# Altium integrated library Actel ProASIC3.IntLib: 465 symbols (part 50 of 68)
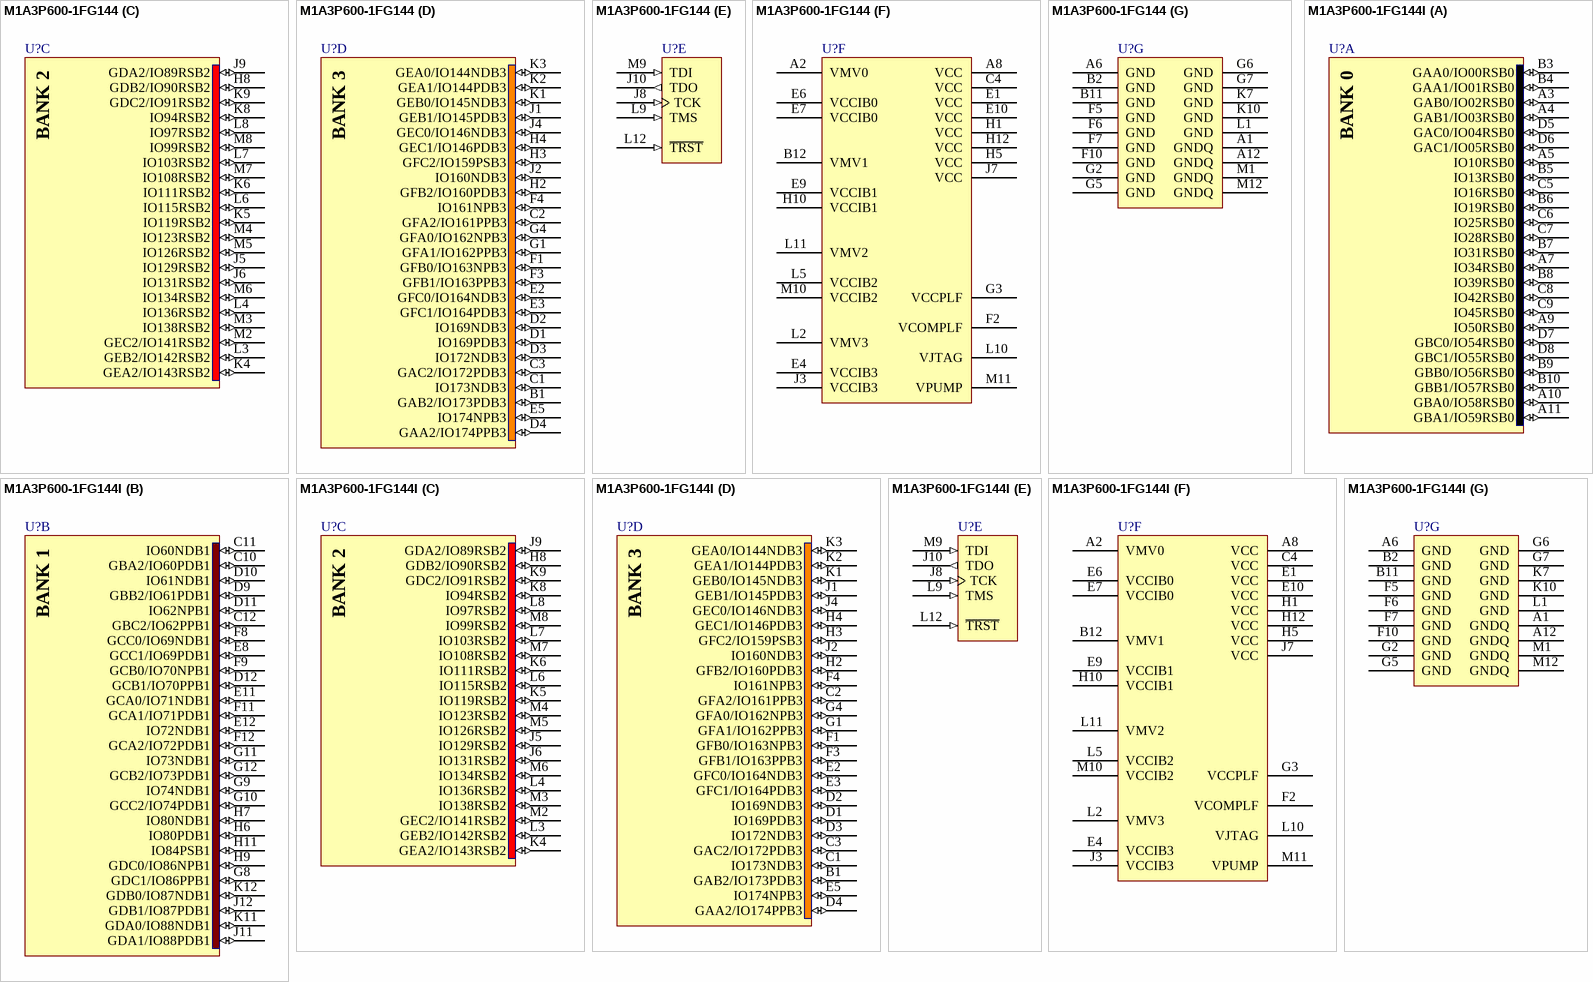
[diagram p448: symbols M1A3P600-1FG144 to M1A3P600-1FG144I]

## M1A3P600-1FG144I
designator U?
M1-Ready ProASIC3 Flash Family FPGA, 97 User IOs, 600K System Gates, 108 Kbits RAM, 1 Kbit ProASIC3 Flash ROM, 1 PLLs, 144-Ball FBGA, Industrial Grade; DatasheetVersion: v1.3, Oct-2009; PackageVersion: rev39, Aug-2010; PackageReference: FG144; PackageDescription: 144-Ball Fine Pitch Plastic Ball Grid Array (FG144); Code_JEDEC: MO-192-DAD-1; ComponentLink1Description: Manufacturer URL; ComponentLink1URL: http://www.actel.com/; ComponentLink2Description: ProASIC3 Datasheet; ComponentLink2URL: http://www.actel.com/documents/PA3_DS.pdf; ComponentLink3Description: Package Mechanical Drawings; ComponentLink3URL: http://www.actel.com/documents/PckgMechDrwngs.pdf; ComponentLink4Description: ProASIC3 Documents; ComponentLink4URL: http://www.actel.com/products/pa3/docs.aspx
footprint FG144 (BGA, 144-Leads, Body 13x13mm, Pitch 1mm)
part A pins: A3 GAB0/IO02RSB0 (io), A4 GAB1/IO03RSB0 (io), A5 IO10RSB0 (io), A7 IO34RSB0 (io), A9 IO50RSB0 (io), A10 GBA0/IO58RSB0 (io), A11 GBA1/IO59RSB0 (io), B3 GAA0/IO00RSB0 (io), B4 GAA1/IO01RSB0 (io), B5 IO13RSB0 (io), B6 IO19RSB0 (io), B7 IO31RSB0 (io), B8 IO39RSB0 (io), B9 GBB0/IO56RSB0 (io), B10 GBB1/IO57RSB0 (io), C5 IO16RSB0 (io), C6 IO25RSB0 (io), C7 IO28RSB0 (io), C8 IO42RSB0 (io), C9 IO45RSB0 (io), D5 GAC0/IO04RSB0 (io), D6 GAC1/IO05RSB0 (io), D7 GBC0/IO54RSB0 (io), D8 GBC1/IO55RSB0 (io)
part B pins: C10 GBA2/IO60PDB1 (io), C11 IO60NDB1 (io), C12 GBC2/IO62PPB1 (io), D9 GBB2/IO61PDB1 (io), D10 IO61NDB1 (io), D11 IO62NPB1 (io), D12 GCB1/IO70PPB1 (io), E8 GCC1/IO69PDB1 (io), E11 GCA0/IO71NDB1 (io), E12 IO72NDB1 (io), F8 GCC0/IO69NDB1 (io), F9 GCB0/IO70NPB1 (io), F11 GCA1/IO71PDB1 (io), F12 GCA2/IO72PDB1 (io), G8 GDC1/IO86PPB1 (io), G9 IO74NDB1 (io), G10 GCC2/IO74PDB1 (io), G11 IO73NDB1 (io), G12 GCB2/IO73PDB1 (io), H6 IO80PDB1 (io), H7 IO80NDB1 (io), H9 GDC0/IO86NPB1 (io), H11 IO84PSB1 (io), J11 GDA1/IO88PDB1 (io), J12 GDB1/IO87PDB1 (io), K11 GDA0/IO88NDB1 (io), K12 GDB0/IO87NDB1 (io)
part C pins: H8 GDB2/IO90RSB2 (io), J5 IO129RSB2 (io), J6 IO131RSB2 (io), J9 GDA2/IO89RSB2 (io), K4 GEA2/IO143RSB2 (io), K5 IO119RSB2 (io), K6 IO111RSB2 (io), K8 IO94RSB2 (io), K9 GDC2/IO91RSB2 (io), L3 GEB2/IO142RSB2 (io), L4 IO136RSB2 (io), L6 IO115RSB2 (io), L7 IO103RSB2 (io), L8 IO97RSB2 (io), M2 GEC2/IO141RSB2 (io), M3 IO138RSB2 (io), M4 IO123RSB2 (io), M5 IO126RSB2 (io), M6 IO134RSB2 (io), M7 IO108RSB2 (io), M8 IO99RSB2 (io)
part D pins: B1 GAB2/IO173PDB3 (io), C1 IO173NDB3 (io), C2 GFA2/IO161PPB3 (io), C3 GAC2/IO172PDB3 (io), D1 IO169PDB3 (io), D2 IO169NDB3 (io), D3 IO172NDB3 (io), D4 GAA2/IO174PPB3 (io), E2 GFC0/IO164NDB3 (io), E3 GFC1/IO164PDB3 (io), E5 IO174NPB3 (io), F1 GFB0/IO163NPB3 (io), F3 GFB1/IO163PPB3 (io), F4 IO161NPB3 (io), G1 GFA1/IO162PPB3 (io), G4 GFA0/IO162NPB3 (io), H2 GFB2/IO160PDB3 (io), H3 GFC2/IO159PSB3 (io), H4 GEC1/IO146PDB3 (io), J1 GEB1/IO145PDB3 (io), J2 IO160NDB3 (io), J4 GEC0/IO146NDB3 (io), K1 GEB0/IO145NDB3 (io), K2 GEA1/IO144PDB3 (io), K3 GEA0/IO144NDB3 (io)
part E pins: J8 TCK (in), J10 TDO (out), L9 TMS (in), L12 ~{TRST} (in), M9 TDI (in)
part F pins: A2 VMV0 (power), A8 VCC (power), B12 VMV1 (power), C4 VCC (power), E1 VCC (power), E4 VCCIB3 (power), E6 VCCIB0 (power), E7 VCCIB0 (power), E9 VCCIB1 (power), E10 VCC (power), F2 VCOMPLF (power), G3 VCCPLF (power), H1 VCC (power), H5 VCC (power), H10 VCCIB1 (power), H12 VCC (power), J3 VCCIB3 (power), J7 VCC (power), L2 VMV3 (power), L5 VCCIB2 (power), L10 VJTAG (power), L11 VMV2 (power), M10 VCCIB2 (power), M11 VPUMP (power)
part G pins: A1 GNDQ (power), A6 GND (power), A12 GNDQ (power), B2 GND (power), B11 GND (power), F5 GND (power), F6 GND (power), F7 GND (power), F10 GND (power), G2 GND (power), G5 GND (power), G6 GND (power), G7 GND (power), K7 GND (power), K10 GND (power), L1 GND (power), M1 GNDQ (power), M12 GNDQ (power)
part A text: BANK 0
part B text: BANK 1
part C text: BANK 2
part D text: BANK 3

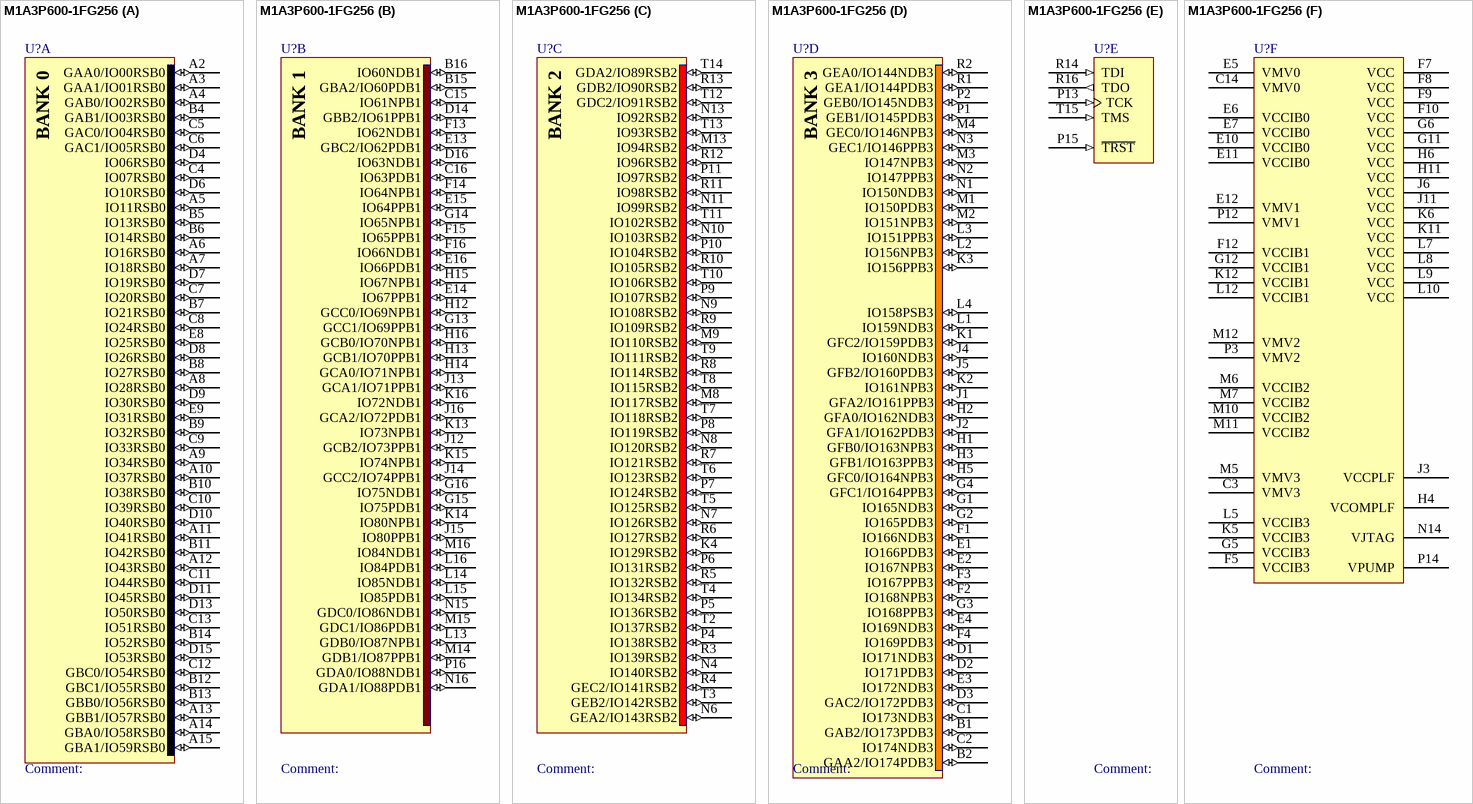
[diagram p196: symbol M1A3P600-1FG256]

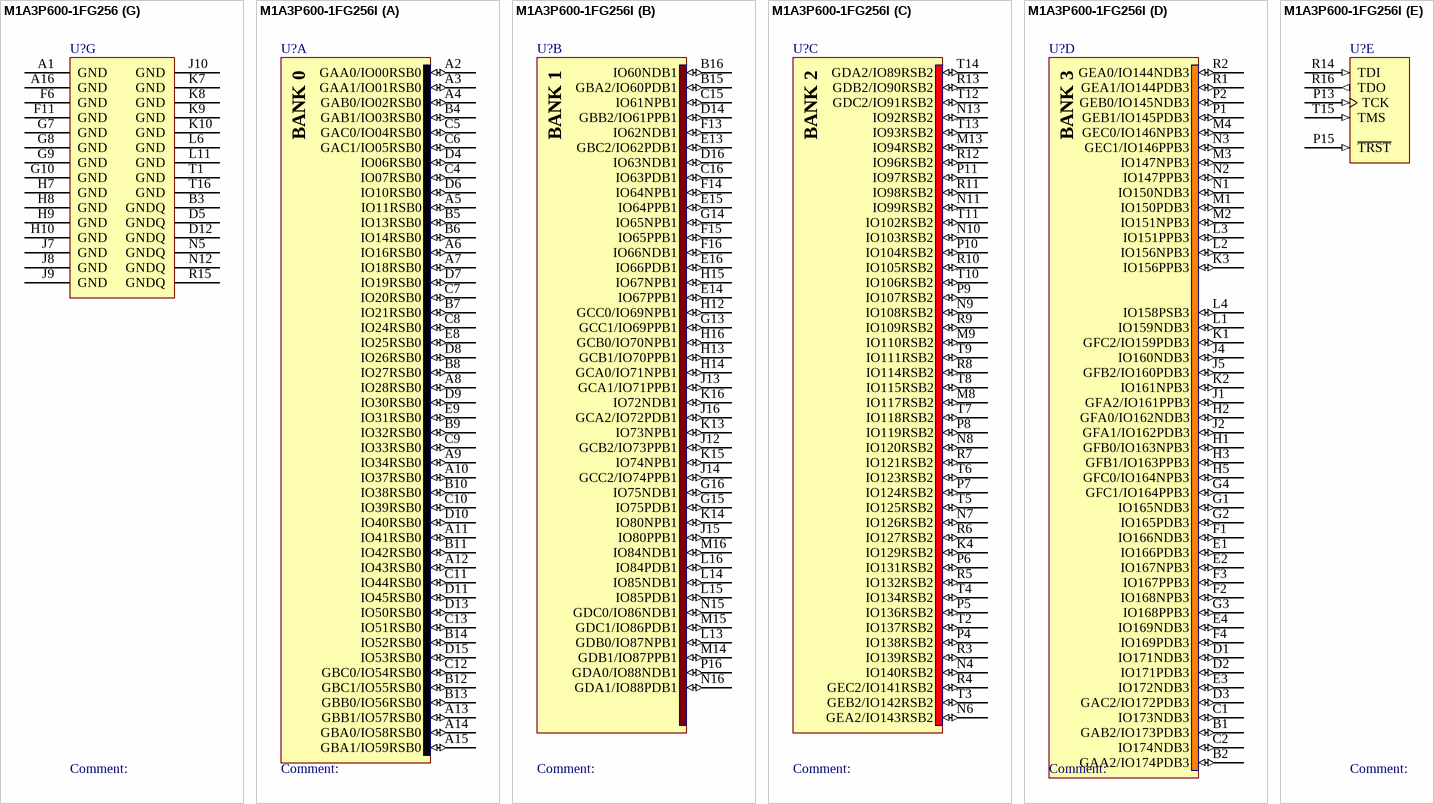
[diagram p197: symbols M1A3P600-1FG256 to M1A3P600-1FG256I]